# Altium schematic symbol library Raspberry Pi.SchLib: 2 symbols
Pins are listed as number, name and electrical type; pins without a type are passive.

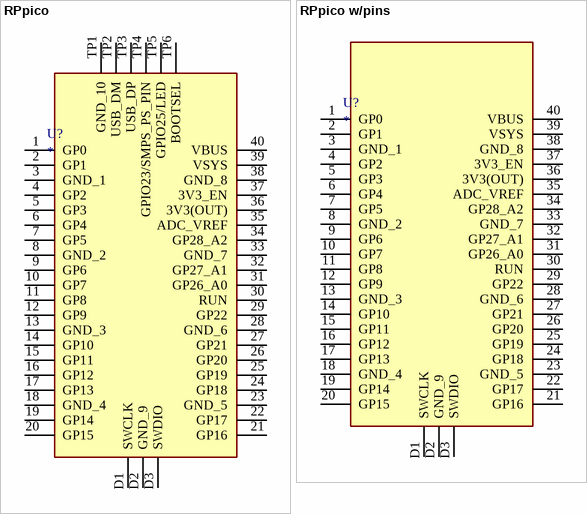
[diagram p0: symbols RPpico to RPpico w/pins]

## RPpico
designator U?
footprint RPpico
pins: 1 GP0, 2 GP1, 3 GND_1, 4 GP2, 5 GP3, 6 GP4, 7 GP5, 8 GND_2, 9 GP6, 10 GP7, 11 GP8, 12 GP9, 13 GND_3, 14 GP10, 15 GP11, 16 GP12, 17 GP13, 18 GND_4, 19 GP14, 20 GP15, 21 GP16, 22 GP17, 23 GND_5, 24 GP18, 25 GP19, 26 GP20, 27 GP21, 28 GND_6, 29 GP22, 30 RUN, 31 GP26_A0, 32 GP27_A1, 33 GND_7, 34 GP28_A2, 35 ADC_VREF, 36 3V3(OUT), 37 3V3_EN, 38 GND_8, 39 VSYS, 40 VBUS, D1 SWCLK, D2 GND_9, D3 SWDIO, TP1 GND_10, TP2 USB_DM, TP3 USB_DP, TP4 GPIO23/SMPS_PS_PIN, TP5 GPIO25/LED, TP6 BOOTSEL

## RPpico w/pins
designator U?
footprint RPpico w/pins
pins: 1 GP0, 2 GP1, 3 GND_1, 4 GP2, 5 GP3, 6 GP4, 7 GP5, 8 GND_2, 9 GP6, 10 GP7, 11 GP8, 12 GP9, 13 GND_3, 14 GP10, 15 GP11, 16 GP12, 17 GP13, 18 GND_4, 19 GP14, 20 GP15, 21 GP16, 22 GP17, 23 GND_5, 24 GP18, 25 GP19, 26 GP20, 27 GP21, 28 GND_6, 29 GP22, 30 RUN, 31 GP26_A0, 32 GP27_A1, 33 GND_7, 34 GP28_A2, 35 ADC_VREF, 36 3V3(OUT), 37 3V3_EN, 38 GND_8, 39 VSYS, 40 VBUS, D1 SWCLK, D2 GND_9, D3 SWDIO